# EAGLE library part 653114131822 (library Wuerth_Elektronik_eiCan_Wire_to_Board_Connectors v1.2)
WR-WTB 1.25mm SMT Male Horizontal Shrouded Header, 14 Pins
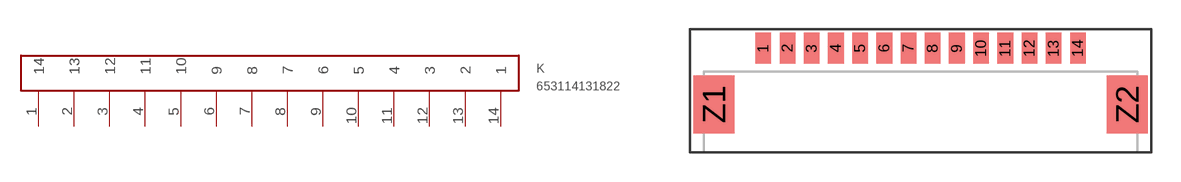
[diagram p71: symbol with the pads of 653114131822; footprint 653114131822]

Designator prefix K

## 653114131822  [653114131822]
1  14
2  13
3  12
4  11
5  10
6  9
7  8
8  7
9  6
10  5
11  4
12  3
13  2
14  1

## Footprint 653114131822 (pad centres in mm)
WR-WTB 1.25mm SMT Male Horizontal Shrouded Header, 14 Pins
smd 0.81 x 1.6: 1 -0.625,0; 2 0.625,0; 3 1.875,0; 4 3.125,0; 5 4.375,0; 6 5.625,0; 7 6.875,0; 8 8.125,0; 9 9.375,0; 10 10.625,0; 11 11.875,0; 12 13.125,0; 13 14.375,0; 14 15.625,0
smd 2.1 x 3: Z1 -3.175,-2.9; Z2 18.175,-2.9